# Altium schematic symbol library DIODE,Schottky,40V,3A,SMD.Schlib: 1 symbol
Pins are listed as number, name and electrical type; pins without a type are passive.

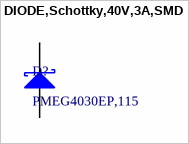
[diagram p0: symbol DIODE,Schottky,40V,3A,SMD]

## DIODE,Schottky,40V,3A,SMD
designator D?, comment PMEG4030EP,115
Diode Schottky 40V 3A Surface Mount CFP5
pins: 1 K, 2 A